# EAGLE library part RA-RJ45 (library comma.ai)
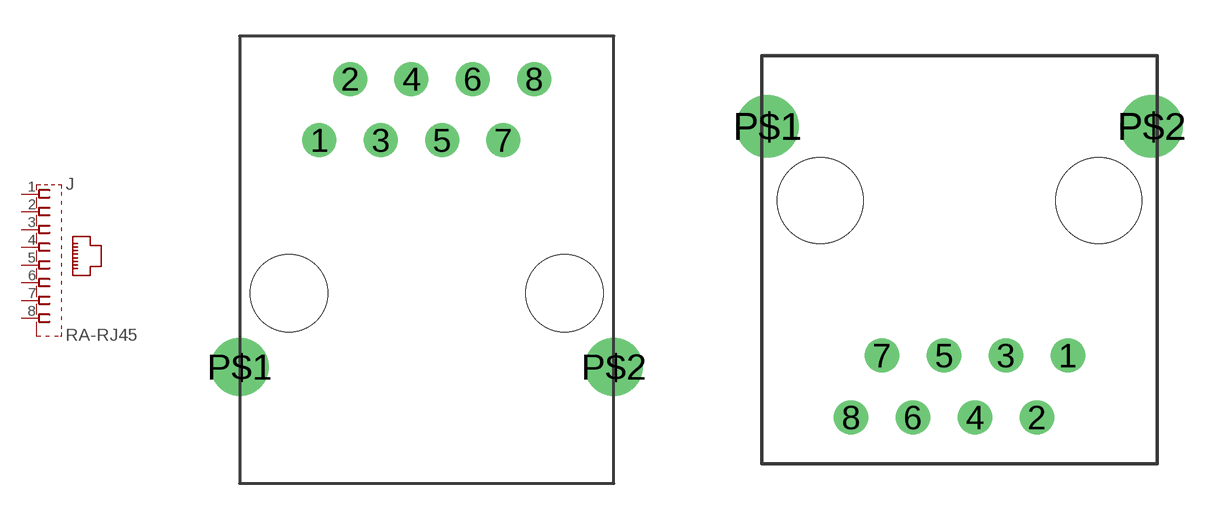
[diagram p40: symbol with the pads of RA-RJ45; footprints RA-RJ45, RA-RJ45-2]

Designator prefix J

## RA-RJ45RA  [RA-RJ45]
1  1  pas
2  2  pas
3  3  pas
4  4  pas
5  5  pas
6  6  pas
7  7  pas
8  8  pas

## RA-RJ45RA-2  [RA-RJ45-2]
Pads as for RA-RJ45

## Footprint RA-RJ45 (pad centres in mm)
drill 0.9: 1 -4.445,6.35; 2 -3.175,8.89; 3 -1.905,6.35; 4 -0.635,8.89; 5 0.635,6.35; 6 1.905,8.89; 7 3.175,6.35; 8 4.445,8.89
drill 1.6: P$1 -7.75,-3.05; P$2 7.75,-3.05
hole 3.2 at -5.715,0
hole 3.2 at 5.715,0

## Footprint RA-RJ45-2 (pad centres in mm)
drill 0.9: 1 4.445,-1.905; 2 3.175,-4.445; 3 1.905,-1.905; 4 0.635,-4.445; 5 -0.635,-1.905; 6 -1.905,-4.445; 7 -3.175,-1.905; 8 -4.445,-4.445
drill 1.71: P$1 -7.875,7.495; P$2 7.875,7.495
hole 3.51 at -5.715,4.445
hole 3.51 at 5.715,4.445